# EAGLE library part MICROSD_MOLEX_5025700893 (library j_microsd_molex_5025700893)
Molex 5025700893 MicroSD Normal Mount SMT Connector
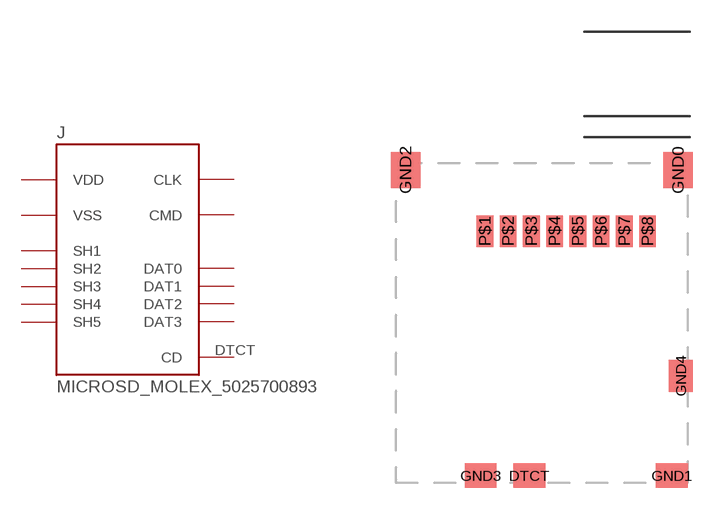
[diagram p0: symbol with the pads of 5025700893; footprint 5025700893]

Designator prefix J

## MICROSD_MOLEX_5025700893  [5025700893]
DTCT  CD
GND0  SH1  pwr
GND1  SH2  pwr
GND2  SH3  pwr
GND3  SH4  pwr
GND4  SH5  pwr
P$1  DAT2
P$2  DAT3
P$3  CMD
P$4  VDD  pwr
P$5  CLK
P$6  VSS  pwr
P$7  DAT0
P$8  DAT1

## Footprint 5025700893 (pad centres in mm)
smd 1.5 x 1.15: DTCT -0.6,-7.375; GND1 6.15,-7.375; GND3 -2.9,-7.375
smd 1.4 x 1.7: GND0 6.45,7.1; GND2 -6.45,7.1
smd 1.15 x 1.5: GND4 6.575,-2.65
smd 0.8 x 1.5: P$1 -2.7,4.2; P$2 -1.6,4.2; P$3 -0.5,4.2; P$4 0.6,4.2; P$5 1.7,4.2; P$6 2.8,4.2; P$7 3.9,4.2; P$8 5,4.2